# Altium schematic symbol library HTL_FET.SchLib: 20 symbols
Pins are listed as number, name and electrical type; pins without a type are passive.

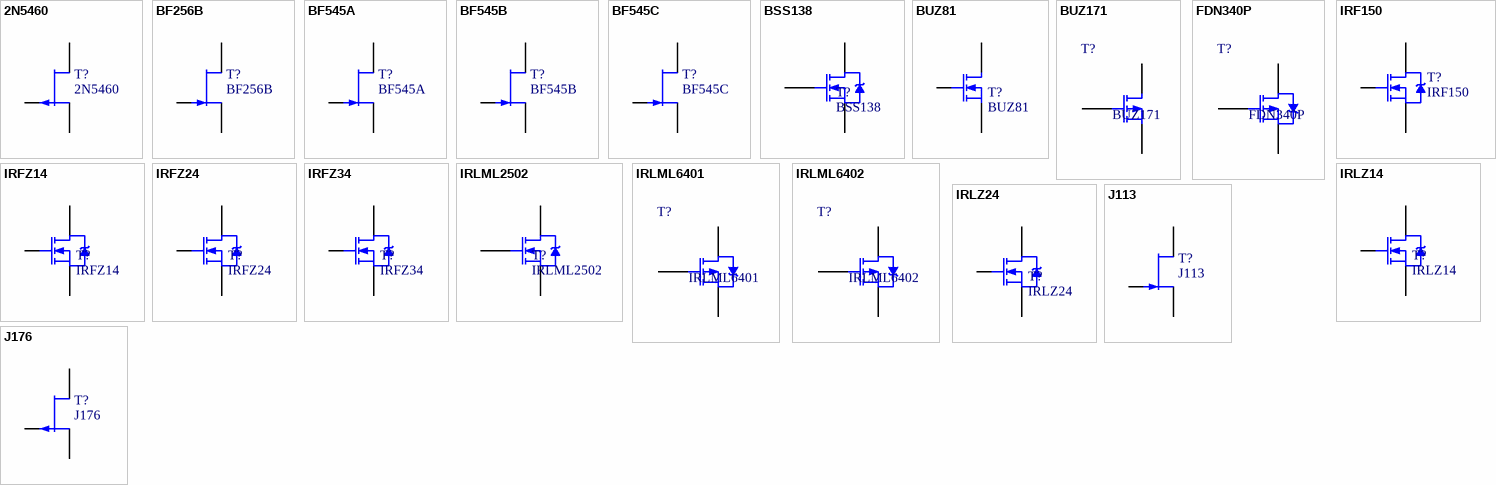
[diagram p0: symbols 2N5460 to J176]

## 2N5460
designator T?
P-Channel Depletion JFET; Usage: only permitted for non-commercial purposes at HTL I Innsbruck; SimulationModellSource: Motorola Discrete JFET; LatestRevisionDate: 31-Oct-2012; Published: 21-Feb-2011
simulation model 2N5460 (JFET P-Channel)
footprint TO-92A-1 (TO, Flat Index; 3 In-Line, Axial Leads; Body Dia. 4.5mm; Leads 0.51 x 0.48 mm (max))
footprint TO-92A-2 (TO, Flat Index; 3 In-Line, Axial Leads; Body Dia. 4.5mm; Leads 0.51 x 0.48 mm (max))
footprint TO-92A-3 (TO, Flat Index; 3 In-Line, Axial Leads; Body Dia. 4.5mm; Leads 0.51 x 0.48 mm (max))
pins: 1 S, 2 D, 3 G

## BF256B
designator T?
N-Channel Silicon JFET; Usage: only permitted for non-commercial purposes at HTL I Innsbruck; SimulationModellSource: Philips Discrete JFET; Published: 21-Sep-2017; LatestRevisionDate: 21-Sep-2017
simulation model BF256B (JFET N-Channel)
footprint TO-92A-1 (TO, Flat Index; 3 In-Line, Axial Leads; Body Dia. 4.5mm; Leads 0.51 x 0.48 mm (max))
footprint TO-92A-2 (TO, Flat Index; 3 In-Line, Axial Leads; Body Dia. 4.5mm; Leads 0.51 x 0.48 mm (max))
footprint TO-92A-3 (TO, Flat Index; 3 In-Line, Axial Leads; Body Dia. 4.5mm; Leads 0.51 x 0.48 mm (max))
pins: 1 G, 2 S, 3 D

## BF545A
designator T?
N-Channel Silicon JFET; Usage: only permitted for non-commercial purposes at HTL I Innsbruck; SimulationModellSource: Philips Discrete JFET; Published: 29-Mar-2017; LatestRevisionDate: 29-Mar-2017
simulation model BF545A (JFET N-Channel)
footprint SOT-23 (SOT23, 3-Leads, Body 2.9x1.3mm, Pitch 0.95mm, Lead Span 2.3mm, IPC Low Density)
pins: 1 S, 2 D, 3 G

## BF545B
designator T?
N-Channel Silicon JFET; Usage: only permitted for non-commercial purposes at HTL I Innsbruck; SimulationModellSource: Philips Discrete JFET; Published: 29-Mar-2017; LatestRevisionDate: 29-Mar-2017
simulation model BF545B (JFET N-Channel)
footprint SOT-23 (SOT23, 3-Leads, Body 2.9x1.3mm, Pitch 0.95mm, Lead Span 2.3mm, IPC Low Density)
pins: 1 S, 2 D, 3 G

## BF545C
designator T?
N-Channel Silicon JFET; Usage: only permitted for non-commercial purposes at HTL I Innsbruck; SimulationModellSource: Philips Discrete JFET; Published: 29-Mar-2017; LatestRevisionDate: 29-Mar-2017
simulation model BF545C (JFET N-Channel)
footprint SOT-23 (SOT23, 3-Leads, Body 2.9x1.3mm, Pitch 0.95mm, Lead Span 2.3mm, IPC Low Density)
pins: 1 S, 2 D, 3 G

## BSS138
designator T?
N-Channel Logic Level Enhancement Mode Field Effect Transistor; Usage: only permitted for non-commercial purposes at HTL I Innsbruck; SimulationModellSource: no SimModell available yet; Published: 29-Mar-2017; LatestRevisionDate: 05-Jan-2017; Publisher: Michael Kupfner
footprint SOT-23 (SOT23, 3-Leads, Body 2.9x1.3mm, Pitch 0.95mm, Lead Span 2.3mm, IPC Low Density)
pins: 1 G, 2 S, 3 D

## BUZ81
designator T?
N-Channel Power MOSFET (4A, 800V, 2.5 Ohm); Usage: only permitted for non-commercial purposes at HTL I Innsbruck; SimulationModellSource: Siemens (http://www.datasheetarchive.com/files/spicemodels/misc/modelos/spice_complete/buz_l0.lib); Published: 26-Mar-2015; LatestRevisionDate: 26-Mar-2015; Publisher: Michael Kupfner
footprint TO-220AB - Horizontal (TO, Thru-Hole, Horizontal, Heatsink Mounted; 3 In-Line Leads; Pitch 2.54 mm)
footprint TO-220AB - Vertical (TO, Thru-Hole, Vertical, Heatsink Mounted; 3 In-Line Leads; Pitch 2.54 mm)
simulation model BUZ-81 (Sep 23, 2010)
pins: 1 G, 2 D, 3 S

## BUZ171
designator T?
P-Channel MOSFET; Usage: only permitted for non-commercial purposes at HTL I Innsbruck; SimulationModellSource: Siemens (http://www.datasheetarchive.com/files/spicemodels/misc/modelos/spice_complete/buz_l0.lib); Published: 02-Apr-2018; LatestRevisionDate: 02-Apr-2018; Publisher: Michael Kupfner
simulation model BUZ-171 (SRC=BUZ-171;BUZ-171;MOSFETs P;Siemens;50V 8A 0.3 Ohm)
pins: 1 G, 2 S, 3 D

## FDN340P
designator T?
P-Channel Logic Level PowerTrench MOSFET; Usage: only permitted for non-commercial purposes at HTL I Innsbruck; SimulationModellSource: no SimModell available yet; Published: 04-Jan-2018; LatestRevisionDate: 04-Jan-2018; Publisher: Michael Kupfner
footprint SOT-23 (SOT23, 3-Leads, Body 2.9x1.3mm, Pitch 0.95mm, Lead Span 2.3mm, IPC Low Density)
pins: 1 G, 2 S, 3 D

## IRF150
designator T?
N-Channel Power MOSFET (40A, 100V, 0.055 Ohm); Usage: only permitted for non-commercial purposes at HTL I Innsbruck; SimulationModellSource: Intersil Discrete MOSFET; Published: 21-Feb-2011; LatestRevisionDate: 31-Oct-2012
simulation model IRF150 (SUBCKT)
footprint TO-204AE (Oval Flange Mount with (2) Offset Leads; Pin Spacing 10.92 mm; Lead Dia. 1.6 mm (max))
pins: 1 G, 2 S, 3 D

## IRFZ14
designator T?
N-Channel Power MOSFET (7.2A, 60V, 0.20 Ohm); Usage: only permitted for non-commercial purposes at HTL I Innsbruck; Published: 26-Mar-2015; LatestRevisionDate: 26-Mar-2015; SimulationModellSource: http://www.vishay.com/mosfets/related/#spice; Publisher: Michael Kupfner
footprint TO-220AB - Horizontal (TO, Thru-Hole, Horizontal, Heatsink Mounted; 3 In-Line Leads; Pitch 2.54 mm)
footprint TO-220AB - Vertical (TO, Thru-Hole, Vertical, Heatsink Mounted; 3 In-Line Leads; Pitch 2.54 mm)
simulation model IRFZ14 (Sep 23, 2010)
pins: 1 G, 2 D, 3 S

## IRFZ24
designator T?
N-Channel Power MOSFET (12A, 60V, 0.10 Ohm); Usage: only permitted for non-commercial purposes at HTL I Innsbruck; Published: 26-Mar-2015; LatestRevisionDate: 26-Mar-2015; SimulationModellSource: http://www.vishay.com/mosfets/related/#spice; Publisher: Michael Kupfner
footprint TO-220AB - Horizontal (TO, Thru-Hole, Horizontal, Heatsink Mounted; 3 In-Line Leads; Pitch 2.54 mm)
footprint TO-220AB - Vertical (TO, Thru-Hole, Vertical, Heatsink Mounted; 3 In-Line Leads; Pitch 2.54 mm)
simulation model IRFZ24NS (Aug 17, 2010)
pins: 1 G, 2 D, 3 S

## IRFZ34
designator T?
N-Channel HEXFET Power MOSFET (28A, 60V, 0.042 Ohm); Usage: only permitted for non-commercial purposes at HTL I Innsbruck; SimulationModellSource: Internet (element14.com); Published: 21-Feb-2011; LatestRevisionDate: 31-Oct-2012; Publisher: Michael Kupfner
simulation model IRFZ34E (SUBCKT)
footprint TO-220AB - Horizontal (TO, Thru-Hole, Horizontal, Heatsink Mounted; 3 In-Line Leads; Pitch 2.54 mm)
footprint TO-220AB - Vertical (TO, Thru-Hole, Vertical, Heatsink Mounted; 3 In-Line Leads; Pitch 2.54 mm)
pins: 1 G, 2 D, 3 S

## IRLML2502
designator T?
N-Channel HEXFET Power MOSFET; Usage: only permitted for non-commercial purposes at HTL I Innsbruck; SimulationModellSource: no SimModell available yet; Published: 29-Mar-2017; LatestRevisionDate: 16-May-2015; Publisher: Michael Kupfner
footprint SOT-23 (SOT23, 3-Leads, Body 2.9x1.3mm, Pitch 0.95mm, Lead Span 2.3mm, IPC Low Density)
pins: 1 G, 2 S, 3 D

## IRLML6401
designator T?
P-Channel HEXFET Power MOSFET; Usage: only permitted for non-commercial purposes at HTL I Innsbruck; SimulationModellSource: no SimModell available yet; Published: 29-Mar-2017; LatestRevisionDate: 16-May-2015; Publisher: Michael Kupfner
footprint SOT-23 (SOT23, 3-Leads, Body 2.9x1.3mm, Pitch 0.95mm, Lead Span 2.3mm, IPC Low Density)
pins: 1 G, 2 S, 3 D

## IRLML6402
designator T?
P-Channel HEXFET Power MOSFET; Usage: only permitted for non-commercial purposes at HTL I Innsbruck; SimulationModellSource: no SimModell available yet; Published: 29-Mar-2017; LatestRevisionDate: 16-May-2015; Publisher: Michael Kupfner
footprint SOT-23 (SOT23, 3-Leads, Body 2.9x1.3mm, Pitch 0.95mm, Lead Span 2.3mm, IPC Low Density)
pins: 1 G, 2 S, 3 D

## IRLZ14
designator T?
N-Channel Power MOSFET (7.2A, 60V, 0.20 Ohm); Usage: only permitted for non-commercial purposes at HTL I Innsbruck; Published: 26-Mar-2015; LatestRevisionDate: 26-Mar-2015; SimulationModellSource: http://www.vishay.com/mosfets/related/#spice; Publisher: Michael Kupfner
footprint TO-220AB - Horizontal (TO, Thru-Hole, Horizontal, Heatsink Mounted; 3 In-Line Leads; Pitch 2.54 mm)
footprint TO-220AB - Vertical (TO, Thru-Hole, Vertical, Heatsink Mounted; 3 In-Line Leads; Pitch 2.54 mm)
simulation model IRLZ14S (Sep 23, 2010)
pins: 1 G, 2 D, 3 S

## IRLZ24
designator T?
N-Channel Power MOSFET (12A, 60V, 0.10 Ohm); Usage: only permitted for non-commercial purposes at HTL I Innsbruck; SimulationModellSource: no Sim-Modell found; Published: 26-Mar-2015; LatestRevisionDate: 26-Mar-2015; Publisher: Michael Kupfner
footprint TO-220AB - Horizontal (TO, Thru-Hole, Horizontal, Heatsink Mounted; 3 In-Line Leads; Pitch 2.54 mm)
footprint TO-220AB - Vertical (TO, Thru-Hole, Vertical, Heatsink Mounted; 3 In-Line Leads; Pitch 2.54 mm)
pins: 1 G, 2 D, 3 S

## J113
designator T?
N-Channel Silicon JFET; Usage: only permitted for non-commercial purposes at HTL I Innsbruck; SimulationModellSource: Philips Discrete JFET; Published: 21-Feb-2011; LatestRevisionDate: 31-Oct-2012
footprint TO-92A-1 (TO, Flat Index; 3 In-Line, Axial Leads; Body Dia. 4.5mm; Leads 0.51 x 0.48 mm (max)); pin to pad 1>3 3>1
simulation model J113 (NJFET)
footprint TO-92A-2 (TO, Flat Index; 3 In-Line, Axial Leads; Body Dia. 4.5mm; Leads 0.51 x 0.48 mm (max)); pin to pad 1>3 3>1
footprint TO-92A-3 (TO, Flat Index; 3 In-Line, Axial Leads; Body Dia. 4.5mm; Leads 0.51 x 0.48 mm (max)); pin to pad 1>3 3>1
pins: 1 G, 2 S, 3 D

## J176
designator T?
P-Channel Silicon JFET; SimulationModellSource: Philips Discrete JFET; Usage: only permitted for non-commercial purposes at HTL I Innsbruck; Published: 21-Feb-2011; LatestRevisionDate: 31-Oct-2012
footprint TO-92A-1 (TO, Flat Index; 3 In-Line, Axial Leads; Body Dia. 4.5mm; Leads 0.51 x 0.48 mm (max)); pin to pad 1>3 2>1 3>2
simulation model J176 (PJFET)
footprint TO-92A-2 (TO, Flat Index; 3 In-Line, Axial Leads; Body Dia. 4.5mm; Leads 0.51 x 0.48 mm (max)); pin to pad 1>3 2>1 3>2
footprint TO-92A-3 (TO, Flat Index; 3 In-Line, Axial Leads; Body Dia. 4.5mm; Leads 0.51 x 0.48 mm (max)); pin to pad 1>3 2>1 3>2
pins: 1 S, 2 D, 3 G